# EAGLE library part WE-RJ45_74990111217 (library Wurth_Signal & Communications_WE-RJ45_LAN)
WE-RJ45 LAN Transformer Characteristics RJ45 Connector with integrated transformer / common mode choke Power over Ethernet up to 50 Watt and speeds up to 10 Gbit/s Available in SMD, THT and THT with USB Compliant with standards: IEEE 802.3u, IEEE 802.3ab, IEEE 802.3af, IEEE 802.3at, IEEE 802.3an and upcoming IEE 802.3bt Applications Suitable for industrial temperatures from –40 °C up to +85 °C Compatible to Industrial Ethernet systems like EtherCAT or Profinet Compliant with most IC’s for Ethernet applications such as Microchip, Texas Instruments, Broadcom, Linear Technology Hubs, Routers, Switches, IP cameras, IoT applications <https://www.we-online.com/components/media/o35731v209%20Family-WE-RJ45LAN-7499xxxxxx.jpg> Details see: www.we-online.com/components/products/WE-LAN-RJ45 <www.we-online.com/catalog/WE-LAN-RJ45/?utm_source=eagle_model&utm_medium=description_link&utm_campaign=eisos_eagle> Updated by Ella Wu 2021-09-17 2021 (C) Wurth Elektronik
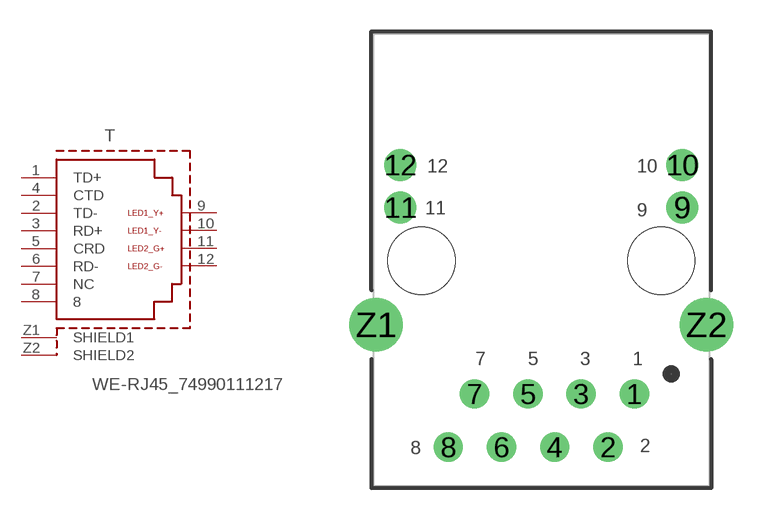
[diagram p20: symbol with the pads of 74990111217; footprint 74990111217]

Designator prefix T

## WE-RJ45_74990111217 (DATA-RATE: 10/100 Base-T; DATASHEET-URL: https://www.we-online.com/redexpert/spec/74990111217?ae; LED: yellow-green; MOUNT: THT; PART-NUMBER: 74990111217; POE: non-PoE; PORTS: 1; USB: No; VALUE: 74990111217)  [74990111217]
1  TD+  pas
2  TD-  pas
3  RD+  pas
4  CTD  pas
5  CRD  pas
6  RD-  pas
7  NC  pas
8  8  pas
9  LED1_Y+  pas
10  LED1_Y-  pas
11  LED2_G+  pas
12  LED2_G-  pas
Z1  SHIELD1  pas
Z2  SHIELD2  pas

## Footprint 74990111217 (pad centres in mm)
WE-RJ45 LAN Transformer 10/100 Base-T
drill 0.89: 1 4.44,-6.35; 2 3.18,-8.89; 3 1.9,-6.35; 4 0.64,-8.89; 5 -0.64,-6.35; 6 -1.9,-8.89; 7 -3.18,-6.35; 8 -4.44,-8.89
drill 1.02: 9 6.725,2.54; 10 6.725,4.57; 11 -6.725,2.54; 12 -6.725,4.57
drill 1.7: Z1 -7.875,-3.05; Z2 7.875,-3.05
hole 3.2 at -5.715,0
hole 3.2 at 5.715,0